# Altium footprint library VFBGA-54_8x14mm.PcbLib: 1 footprints
Each footprint in its own frame and in the unit in brackets; x right, y up, seen from the top. Pads: shape width x height; smd on the part's side, far side on the other; paste and mask are expansions set on the pad; w line width, h text height; cw(c..) or ccw(c..) is an arc to the next point about the centre after c.
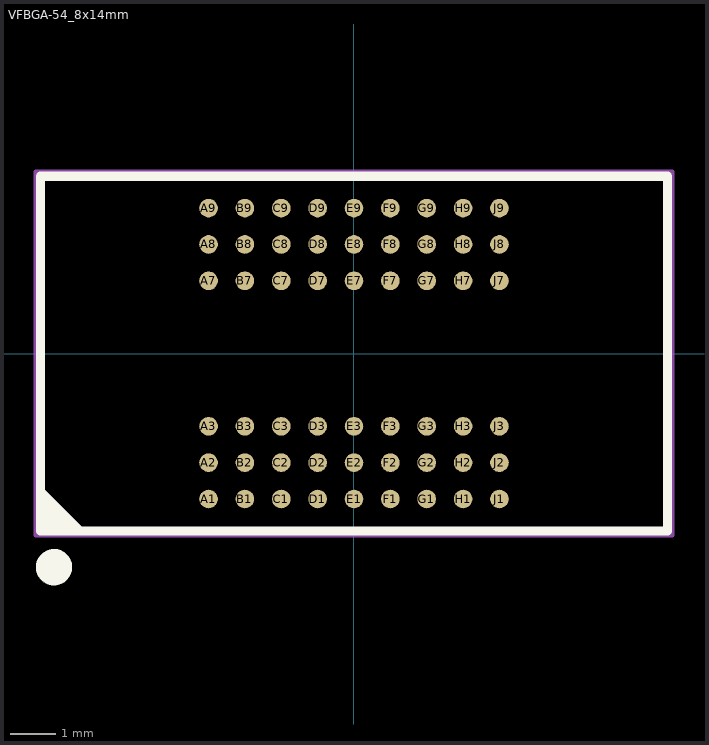
[diagram p0: the footprint, top view; thin cyan lines are the x and y axes]

## VFBGA-54_8x14mm [mm]
pads (54):
  round 0.41 smd mask+0.051: A1(-3.2,-3.2) A2(-3.2,-2.4) A3(-3.2,-1.6) A7(-3.2,1.6) A8(-3.2,2.4) A9(-3.2,3.2) B1(-2.4,-3.2) B2(-2.4,-2.4) B3(-2.4,-1.6) B7(-2.4,1.6) B8(-2.4,2.4) B9(-2.4,3.2) C1(-1.6,-3.2) C2(-1.6,-2.4) C3(-1.6,-1.6) C7(-1.6,1.6) C8(-1.6,2.4) C9(-1.6,3.2) D1(-0.8,-3.2) D2(-0.8,-2.4) D3(-0.8,-1.6) D7(-0.8,1.6) D8(-0.8,2.4) D9(-0.8,3.2) E1(0,-3.2) E2(0,-2.4) E3(0,-1.6) E7(0,1.6) E8(0,2.4) E9(0,3.2) F1(0.8,-3.2) F2(0.8,-2.4) F3(0.8,-1.6) F7(0.8,1.6) F8(0.8,2.4) F9(0.8,3.2) G1(1.6,-3.2) G2(1.6,-2.4) G3(1.6,-1.6) G7(1.6,1.6) G8(1.6,2.4) G9(1.6,3.2) H1(2.4,-3.2) H2(2.4,-2.4) H3(2.4,-1.6) H7(2.4,1.6) H8(2.4,2.4) H9(2.4,3.2) J1(3.2,-3.2) J2(3.2,-2.4) J3(3.2,-1.6) J7(3.2,1.6) J8(3.2,2.4) J9(3.2,3.2)
Top Overlay:
  circle w0.4: c-6.6,-4.7 r0.2
  region: -6.9,-2.9 -5.9,-3.9 -6.9,-3.9
  lines w0.2: -6.9,-3.9 -6.9,3.9 6.9,3.9 6.9,-3.9 -6.9,-3.9
Mechanical 13:
  lines w0.1: -7,-4 7,-4 7,4 -7,4 -7,-4